# Altium schematic symbol library MODULE.SchLib: 4 symbols
Pins are listed as number, name and electrical type; pins without a type are passive.

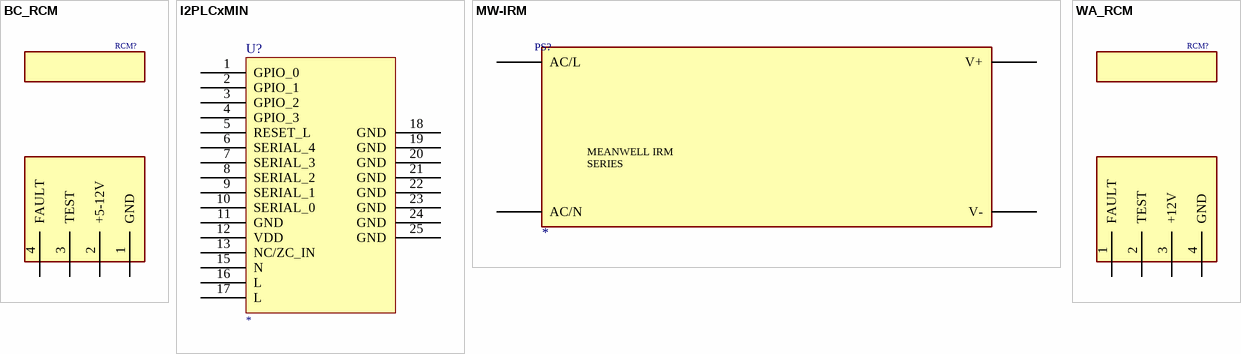
[diagram p0: symbols BC_RCM to WA_RCM]

## BC_RCM
designator RCM?  (value not drawn)
RESIDUAL CURRENT MONITOR VERTICAL TH; Manufacturer: Western Automation
pins: 1 GND, 2 +5-12V, 3 TEST, 4 FAULT

## I2PLCxMIN
designator U?, comment I2PLCAMN-ISE-002-T  (value not drawn)
I2PLCxMIN; Manufacturer: intech; Manufacturer Part Number: *
pins: 1 GPIO_0 "QCA7000/QCA7005 GPIO_0", 2 GPIO_1 "QCA7000/QCA7005 GPIO_1", 3 GPIO_2 "QCA7000/QCA7005 GPIO_2", 4 GPIO_3 "QCA7000/QCA7005 GPIO_3", 5 RESET_L "Reset(low access)", 6 SERIAL_4 "QCA7000/QCA7005 Serial 4", 7 SERIAL_3 "QCA7000/QCA7005 Serial 3", 8 SERIAL_2 "QCA7000/QCA7005 Serial 2", 9 SERIAL_1 "QCA7000/QCA7005 Serial 1", 10 SERIAL_0 "QCA7000/QCA7005 Serial 0", 11 GND "Ground connection", 12 VDD "Supply Voltage for the module", 13 NC/ZC_IN "NC for HA, ZC_IN for automotive", 15 N "Powerline communication", 16 L "Powerline communication", 17 L "Powerline communication", 18 GND "Ground connection", 19 GND "Ground connection", 20 GND "Ground connection", 21 GND "Ground connection", 22 GND "Ground connection", 23 GND "Ground connection", 24 GND "Ground connection", 25 GND "Ground connection"

## MW-IRM
designator PS?
Manufacturer Part Number: *
pins: 1 AC/L, 2 AC/N, 3 V+, 4 V-
text: MEANWELL IRM / SERIES

## WA_RCM
designator RCM?  (value not drawn)
RESIDUAL CURRENT MONITOR VERTICAL TH; Manufacturer: Western Automation
pins: 1 FAULT, 2 TEST, 3 +12V, 4 GND